# EAGLE library part ATXMEGA128A4U-AU (library XMEGA)
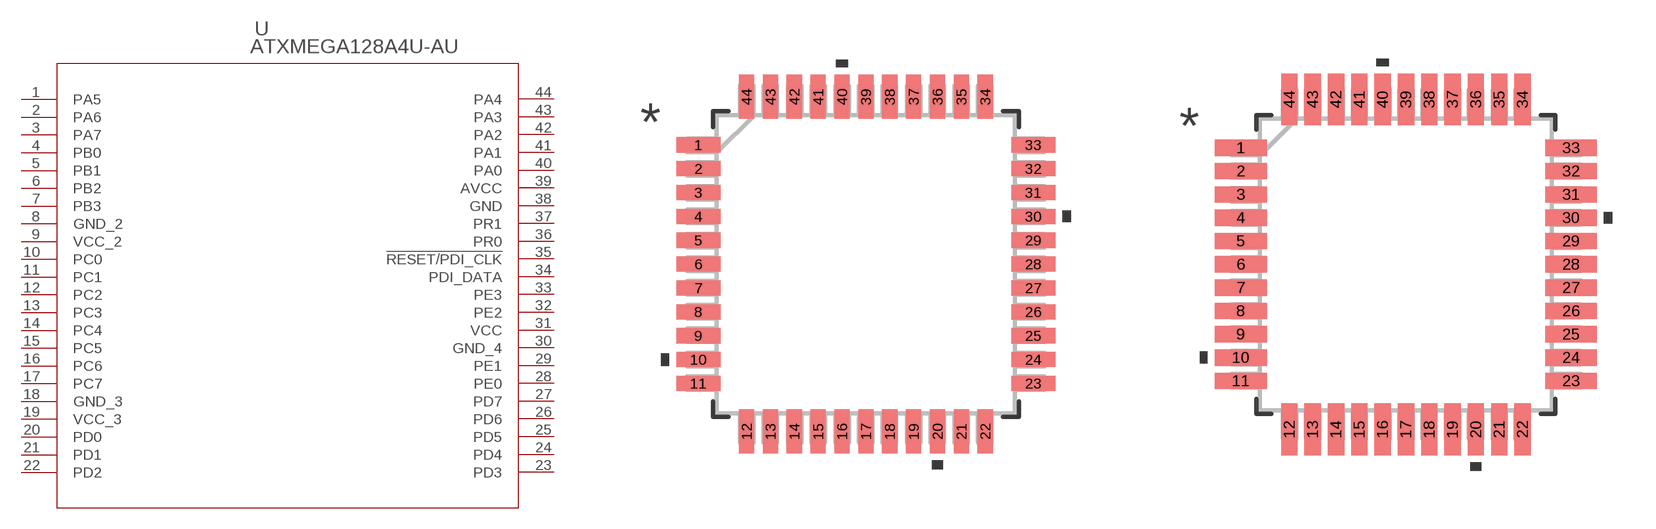
[diagram p0: symbol with the pads of 44A; footprints 44A, 44A-M]

Designator prefix U

## ATXMEGA128A4U-AU (MANUFACTURER_PART_NUMBER: ATXMEGA128A4UAU; VENDOR: Atmel)  [44A]
1  PA5  pas
2  PA6  pas
3  PA7  pas
4  PB0  pas
5  PB1  pas
6  PB2  pas
7  PB3  pas
8  GND_2  pwr
9  VCC_2  pwr
10  PC0  pas
11  PC1  pas
12  PC2  pas
13  PC3  pas
14  PC4  pas
15  PC5  pas
16  PC6  pas
17  PC7  pas
18  GND_3  pwr
19  VCC_3  pwr
20  PD0  pas
21  PD1  pas
22  PD2  pas
23  PD3  pas
24  PD4  pas
25  PD5  pas
26  PD6  pas
27  PD7  pas
28  PE0  pas
29  PE1  pas
30  GND_4  pwr
31  VCC  pwr
32  PE2  pas
33  PE3  pas
34  PDI_DATA  pas
35  !RESET/PDI_CLK  pas
36  PR0  pas
37  PR1  pas
38  GND  pwr
39  AVCC  pwr
40  PA0  pas
41  PA1  pas
42  PA2  pas
43  PA3  pas
44  PA4  pas

## ATXMEGA128A4U-AU44A-M (MANUFACTURER_PART_NUMBER: ATXMEGA128A4UAU; VENDOR: Atmel)  [44A-M]
Pads as for 44A

## ATXMEGA128A4U-AU44A-L (MANUFACTURER_PART_NUMBER: ATXMEGA128A4UAU; VENDOR: Atmel)  [44A-L]
Pads as for 44A

## Footprint 44A (pad centres in mm)
smd 1.473 x 0.508: 1 -5.613,4; 2 -5.613,3.2; 3 -5.613,2.4; 4 -5.613,1.6; 5 -5.613,0.8; 6 -5.613,0; 7 -5.613,-0.8; 8 -5.613,-1.6; 9 -5.613,-2.4; 10 -5.613,-3.2; 11 -5.613,-4; 23 5.613,-4; 24 5.613,-3.2; 25 5.613,-2.4; 26 5.613,-1.6; 27 5.613,-0.8; 28 5.613,0; 29 5.613,0.8; 30 5.613,1.6; 31 5.613,2.4; 32 5.613,3.2; 33 5.613,4
smd 0.508 x 1.473: 12 -4,-5.613; 13 -3.2,-5.613; 14 -2.4,-5.613; 15 -1.6,-5.613; 16 -0.8,-5.613; 17 0,-5.613; 18 0.8,-5.613; 19 1.6,-5.613; 20 2.4,-5.613; 21 3.2,-5.613; 22 4,-5.613; 34 4,5.613; 35 3.2,5.613; 36 2.4,5.613; 37 1.6,5.613; 38 0.8,5.613; 39 0,5.613; 40 -0.8,5.613; 41 -1.6,5.613; 42 -2.4,5.613; 43 -3.2,5.613; 44 -4,5.613

## Footprint 44A-M (pad centres in mm)
smd 1.778 x 0.559: 1 -5.664,4; 2 -5.664,3.2; 3 -5.664,2.4; 4 -5.664,1.6; 5 -5.664,0.8; 6 -5.664,0; 7 -5.664,-0.8; 8 -5.664,-1.6; 9 -5.664,-2.4; 10 -5.664,-3.2; 11 -5.664,-4; 23 5.664,-4; 24 5.664,-3.2; 25 5.664,-2.4; 26 5.664,-1.6; 27 5.664,-0.8; 28 5.664,0; 29 5.664,0.8; 30 5.664,1.6; 31 5.664,2.4; 32 5.664,3.2; 33 5.664,4
smd 0.559 x 1.778: 12 -4,-5.664; 13 -3.2,-5.664; 14 -2.4,-5.664; 15 -1.6,-5.664; 16 -0.8,-5.664; 17 0,-5.664; 18 0.8,-5.664; 19 1.6,-5.664; 20 2.4,-5.664; 21 3.2,-5.664; 22 4,-5.664; 34 4,5.664; 35 3.2,5.664; 36 2.4,5.664; 37 1.6,5.664; 38 0.8,5.664; 39 0,5.664; 40 -0.8,5.664; 41 -1.6,5.664; 42 -2.4,5.664; 43 -3.2,5.664; 44 -4,5.664

## Footprint 44A-L (pad centres in mm)
smd 1.168 x 0.457: 1 -5.563,4; 2 -5.563,3.2; 3 -5.563,2.4; 4 -5.563,1.6; 5 -5.563,0.8; 6 -5.563,0; 7 -5.563,-0.8; 8 -5.563,-1.6; 9 -5.563,-2.4; 10 -5.563,-3.2; 11 -5.563,-4; 23 5.563,-4; 24 5.563,-3.2; 25 5.563,-2.4; 26 5.563,-1.6; 27 5.563,-0.8; 28 5.563,0; 29 5.563,0.8; 30 5.563,1.6; 31 5.563,2.4; 32 5.563,3.2; 33 5.563,4
smd 0.457 x 1.168: 12 -4,-5.563; 13 -3.2,-5.563; 14 -2.4,-5.563; 15 -1.6,-5.563; 16 -0.8,-5.563; 17 0,-5.563; 18 0.8,-5.563; 19 1.6,-5.563; 20 2.4,-5.563; 21 3.2,-5.563; 22 4,-5.563; 34 4,5.563; 35 3.2,5.563; 36 2.4,5.563; 37 1.6,5.563; 38 0.8,5.563; 39 0,5.563; 40 -0.8,5.563; 41 -1.6,5.563; 42 -2.4,5.563; 43 -3.2,5.563; 44 -4,5.563